# Altium footprint library P8.PcbLib: 20 footprints (part 2 of 2)
Each footprint in its own frame and in the unit in brackets; x right, y up, seen from the top. Pads: shape width x height; smd on the part's side, far side on the other; paste and mask are expansions set on the pad; w line width, h text height; cw(c..) or ccw(c..) is an arc to the next point about the centre after c.
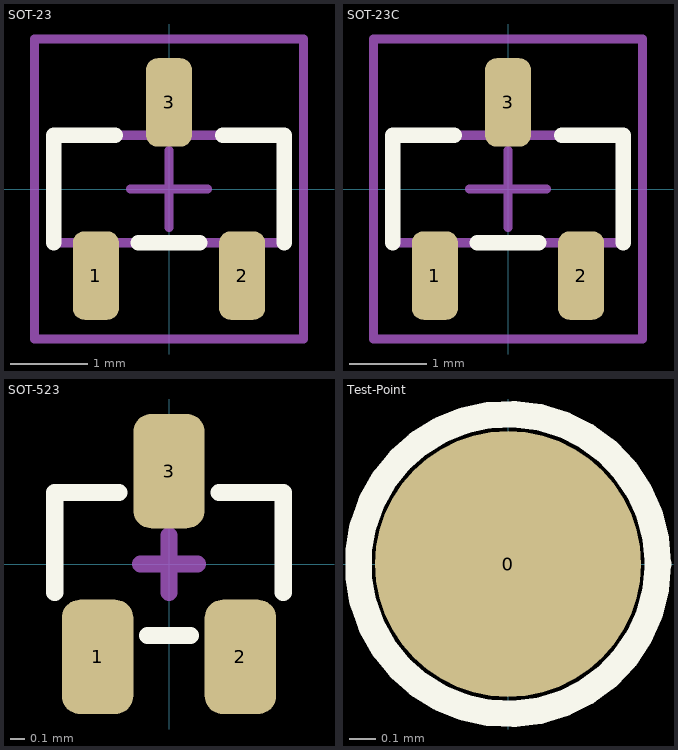
[diagram p1: the footprints below, top view; thin cyan lines are the x and y axes]

## SOT-23 [mm]
height 1.4
pads (3):
  rrect50% 0.6x1.15 smd mask+0.05: 1(-0.95,-1.125) 2(0.95,-1.125) 3(0,1.125)
Top Overlay:
  lines w0.2: -1.5,-0.7 -1.5,0.7 -0.7,0.7 ; -0.4,-0.7 0.4,-0.7 ; 0.7,0.7 1.5,0.7 1.5,-0.7
Mechanical 13:
  lines w0.12: -1.5,-0.7 1.5,-0.7 1.5,0.7 -1.5,0.7 -1.5,-0.7
Mechanical 15:
  lines w0.12: -1.75,-1.95 1.75,-1.95 ; -1.75,-1.95 -1.75,1.95 ; -1.75,-1.95 1.75,-1.95 ; -1.75,-1.95 -1.75,1.95 ; -1.75,1.95 1.75,1.95 ; -1.75,1.95 1.75,1.95 ; 1.75,-1.95 1.75,1.95 ; 1.75,-1.95 1.75,1.95 ; -0.5,0 0.5,0 -0.5,0 ; 0,-0.5 0,0.5 0,-0.5
3D body: height 0.4, standoff 0, extent -0.2,0.42 0.2,1.4
3D body: height 1, standoff 0, extent -1.5,-0.7 1.5,0.7
3D body: height 0.4, standoff 0, extent -1.15,-1.4 -0.75,-0.42
3D body: height 0.4, standoff 0, extent 0.75,-1.4 1.15,-0.42

## SOT-23C [mm]
height 1.4
pads (3):
  rrect50% 0.6x1.15 smd mask+0.05: 1(-0.95,-1.125) 2(0.95,-1.125) 3(0,1.125)
Top Overlay:
  lines w0.2: -1.5,-0.7 -1.5,0.7 -0.7,0.7 ; -0.4,-0.7 0.4,-0.7 ; 0.7,0.7 1.5,0.7 1.5,-0.7
Mechanical 13:
  lines w0.12: -1.5,-0.7 1.5,-0.7 1.5,0.7 -1.5,0.7 -1.5,-0.7
Mechanical 15:
  lines w0.12: -1.75,-1.95 1.75,-1.95 ; -1.75,-1.95 -1.75,1.95 ; -1.75,-1.95 1.75,-1.95 ; -1.75,-1.95 -1.75,1.95 ; -1.75,1.95 1.75,1.95 ; -1.75,1.95 1.75,1.95 ; 1.75,-1.95 1.75,1.95 ; 1.75,-1.95 1.75,1.95 ; -0.5,0 0.5,0 -0.5,0 ; 0,-0.5 0,0.5 0,-0.5
3D body: height 1.1, standoff 0, extent -1.5,-0.7 1.5,0.7
3D body: height 0.4, standoff 0, extent 0.75,-1.4 1.15,-0.42
3D body: height 0.4, standoff 0, extent -1.15,-1.4 -0.75,-0.42
3D body: height 0.4, standoff 0, extent -0.2,0.42 0.2,1.4

## SOT-523 [mm] "SOT23, 3-Leads, Body 1.60x1.60mm, Pitch 0.50mm, IPC Medium Density"
height 0.9
pads (3):
  rrect50% 0.5x0.8 smd mask+0.05: 1(-0.5,-0.65) 2(0.5,-0.65) 3(0,0.65)
Top Overlay:
  lines w0.12: -0.8,-0.2 -0.8,0.5 -0.35,0.5 ; -0.15,-0.5 0.15,-0.5 ; 0.35,0.5 0.8,0.5 0.8,-0.2
Mechanical 15:
  lines w0.12: -0.2,0 0.2,0 ; 0,-0.2 0,0.2
3D body: height 0.9, standoff 0.1, extent -0.75,-0.45 0.75,0.45

## Test-Point [mm]
height 1.4
pads (1):
  round 1 smd paste-2 mask+0.05: 0(0,0)
Top Overlay:
  circle w0.1: c0,0 r0.564